# EAGLE library part TPS6212X (library packages(ti))
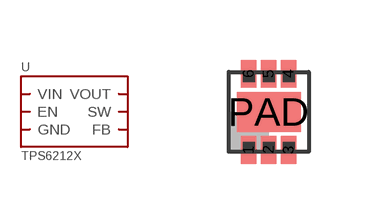
[diagram p26: symbol with the pads of DRV; footprint DRV]

Designator prefix U

## TPS6212X.DRV  [DRV]
1  SW
2  VOUT
3  FB
4  EN
5  VIN
6  GND
PAD  GND

## Footprint DRV (pad centres in mm)
smd 0.39 x 0.7: 1 -0.5,-0.95; 2 0,-0.95; 3 0.5,-0.95; 4 0.5,0.95; 5 0,0.95; 6 -0.5,0.95
smd 1.6 x 1: PAD 0,0